# Altium schematic symbol library 418117270906.SchLib: 1 symbol
Pins are listed as number, name and electrical type; pins without a type are passive.

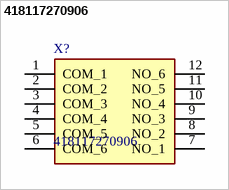
[diagram p0: symbol 418117270906]

## 418117270906
designator X?
DIP Switches / SIP Switches WS-DITV DIP 6p THT 2.54mm Hrztl Box; Manufacturer_Name: Wurth Elektronik; Geometry.Height: 6.55mm; Mouser Part Number: 710-418117270906; Mouser Price/Stock: https://www.mouser.co.uk/ProductDetail/Wurth-Elektronik/418117270906?qs=2kOmHSv6VfTTULWQkr3hYg%3D%3D; Manufacturer_Part_Number: 418117270906; Datasheet Link: https://ms.componentsearchengine.com/Datasheets/1/418117270906.pdf
footprint 418117270906
pins: 1 COM_1, 2 COM_2, 3 COM_3, 4 COM_4, 5 COM_5, 6 COM_6, 7 NO_1, 8 NO_2, 9 NO_3, 10 NO_4, 11 NO_5, 12 NO_6